# EAGLE library part 693061010911 (library Wurth_Elektronik_Electromechanic_Input-Output_Connectors_rev16b)
WR-CRD SD CARD CONNECTOR PUSH & PUSH WITH CARD DETECTION 9 PINS=>Code : Con_I-O_COM_CRD_SD_Normal_693061010911 <http://katalog.we-online.de/media/images/eican/Con_I-O_COM_CRD_SD_Normal_693061010911_pf2.jpg> Details see: http://katalog.we-online.de/en/em/693_061_010_911 Created 2014-07-09, Karrer Zheng 2014 (C) Würth Elektronik
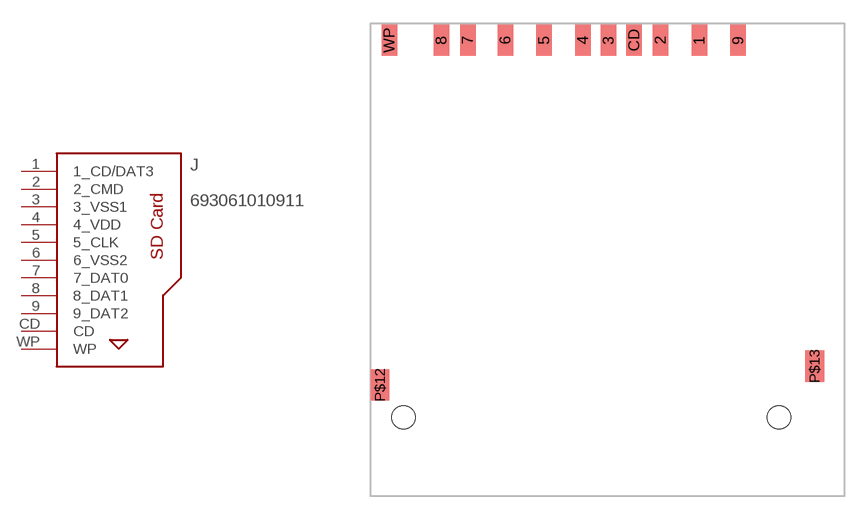
[diagram p92: symbol with the pads of 693061010911; footprint 693061010911]

Designator prefix J

## 693061010911  [693061010911]
1  1_CD/DAT3
2  2_CMD
3  3_VSS1
4  4_VDD
5  5_CLK
6  6_VSS2
7  7_DAT0
8  8_DAT1
9  9_DAT2
CD  CD
WP  WP

## Footprint 693061010911 (pad centres in mm)
WR-CRD SD CARD CONNECTOR PUSH & PUSH WITH CARD DETECTION 9 PINS
smd 1 x 2: 1 19.97,0; 2 17.47,0; 3 14.12,0; 4 12.47,0; 5 9.97,0; 6 7.47,0; 7 5.05,0; 8 3.35,0; 9 22.47,0; CD 15.77,0; WP 0,0
smd 1.2 x 2: P$12 -0.6,-22.21; P$13 27.4,-21.01
hole 1.5 at 0.9,-24.31
hole 1.5 at 25.1,-24.31